# EAGLE library part TEENSY3_2 (library Gritsbot_Library)
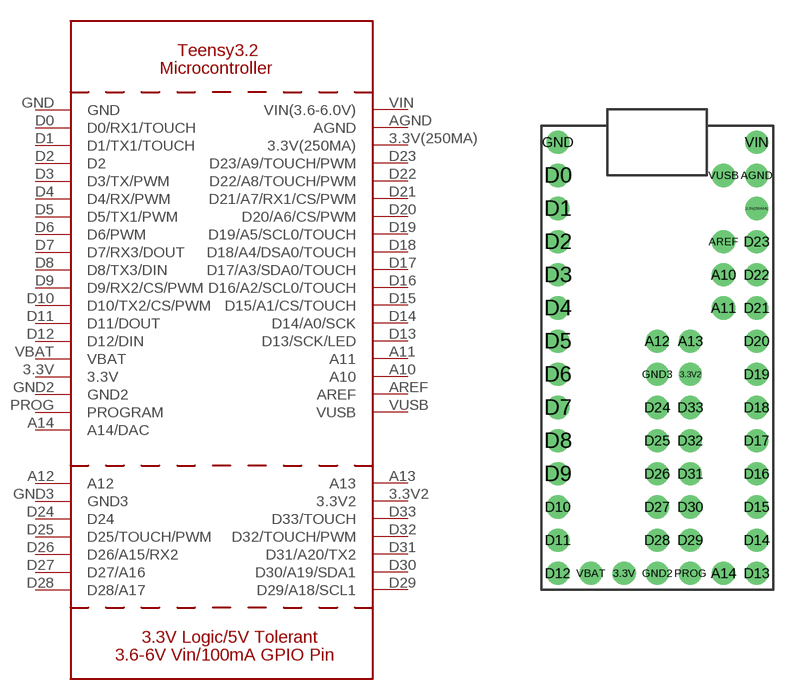
[diagram p1: symbol with the pads of TEENSY3_2; footprint TEENSY3_2]

Designator prefix -

## TEENSY3_2  [TEENSY3_2]
3.3V  3.3V
3.3V2  3.3V2
3.3V(250MA)  3.3V(250MA)
A10  A10
A11  A11
A12  A12
A13  A13
A14  A14/DAC
AGND  AGND
AREF  AREF
D0  D0/RX1/TOUCH
D1  D1/TX1/TOUCH
D2  D2
D3  D3/TX/PWM
D4  D4/RX/PWM
D5  D5/TX1/PWM
D6  D6/PWM
D7  D7/RX3/DOUT
D8  D8/TX3/DIN
D9  D9/RX2/CS/PWM
D10  D10/TX2/CS/PWM
D11  D11/DOUT
D12  D12/DIN
D13  D13/SCK/LED
D14  D14/A0/SCK
D15  D15/A1/CS/TOUCH
D16  D16/A2/SCL0/TOUCH
D17  D17/A3/SDA0/TOUCH
D18  D18/A4/DSA0/TOUCH
D19  D19/A5/SCL0/TOUCH
D20  D20/A6/CS/PWM
D21  D21/A7/RX1/CS/PWM
D22  D22/A8/TOUCH/PWM
D23  D23/A9/TOUCH/PWM
D24  D24
D25  D25/TOUCH/PWM
D26  D26/A15/RX2
D27  D27/A16
D28  D28/A17
D29  D29/A18/SCL1
D30  D30/A19/SDA1
D31  D31/A20/TX2
D32  D32/TOUCH/PWM
D33  D33/TOUCH
GND  GND
GND2  GND2
GND3  GND3
PROG  PROGRAM
VBAT  VBAT
VIN  VIN(3.6-6.0V)
VUSB  VUSB

## Footprint TEENSY3_2 (pad centres in mm)
drill 1.016 pad 1.778: 3.3V -2.54,-15.24; 3.3V2 2.54,0; 3.3V(250MA) 7.62,12.7; A10 5.08,7.62; A11 5.08,5.08; A12 0,2.54; A13 2.54,2.54; A14 5.08,-15.24; AGND 7.62,15.24; AREF 5.08,10.16; D0 -7.62,15.24; D1 -7.62,12.7; D2 -7.62,10.16; D3 -7.62,7.62; D4 -7.62,5.08; D5 -7.62,2.54; D6 -7.62,0; D7 -7.62,-2.54; D8 -7.62,-5.08; D9 -7.62,-7.62; D10 -7.62,-10.16; D11 -7.62,-12.7; D12 -7.62,-15.24; D13 7.62,-15.24; D14 7.62,-12.7; D15 7.62,-10.16; D16 7.62,-7.62; D17 7.62,-5.08; D18 7.62,-2.54; D19 7.62,0; D20 7.62,2.54; D21 7.62,5.08; D22 7.62,7.62; D23 7.62,10.16; D24 0,-2.54; D25 0,-5.08; D26 0,-7.62; D27 0,-10.16; D28 0,-12.7; D29 2.54,-12.7; D30 2.54,-10.16; D31 2.54,-7.62; D32 2.54,-5.08; D33 2.54,-2.54; GND -7.62,17.78; GND2 0,-15.24; GND3 0,0; PROG 2.54,-15.24; VBAT -5.08,-15.24; VIN 7.62,17.78; VUSB 5.08,15.24